# Altium schematic symbol library transformers.SchLib: 9 symbols
Pins are listed as number, name and electrical type; pins without a type are passive.

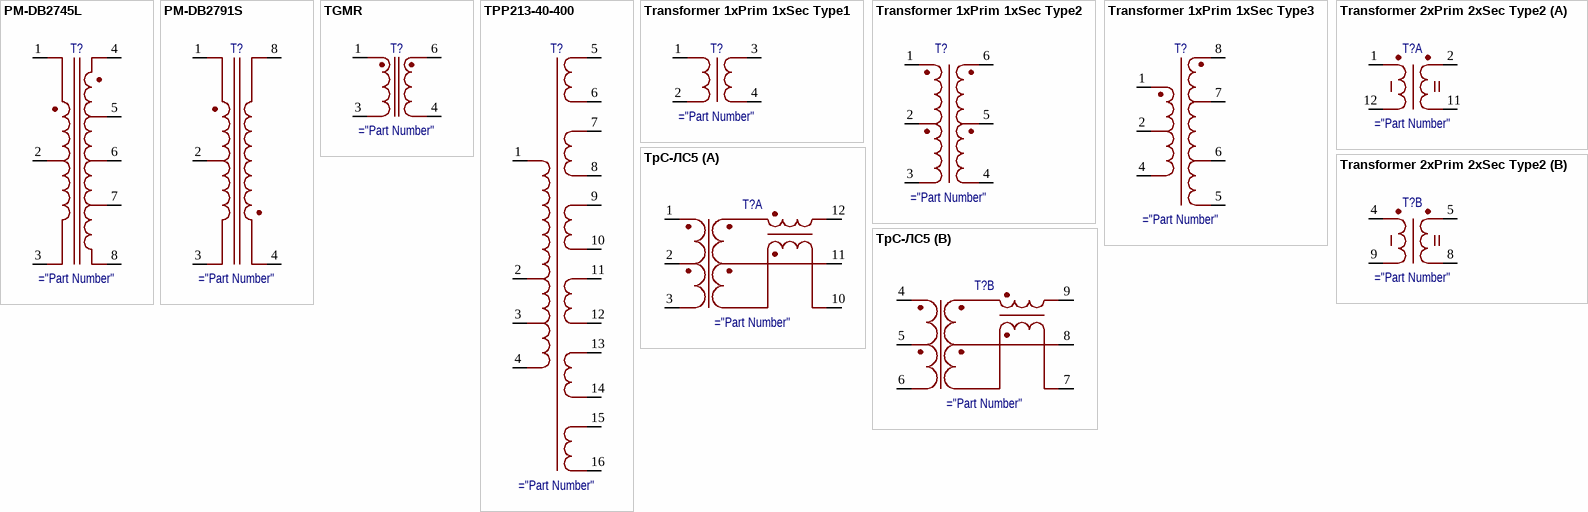
[diagram p0: symbols PM-DB2745L to ТрС-ЛС5]

## PM-DB2745L
designator T?
Трансформатор
pins: 1, 2, 3, 4, 5, 6, 7, 8

## PM-DB2791S
designator T?
Трансформатор
pins: 1, 2, 3, 4, 5 hidden, 6 hidden, 7 hidden, 8

## TGMR
designator T?
Трансформатор
pins: 1, 2 hidden, 3, 4 3, 5 hidden, 6

## TPP213-40-400
designator T?
Трансформатор
pins: 1, 2, 3, 4, 5, 6, 7, 8, 9, 10, 11, 12, 13, 14, 15, 16

## Transformer 1xPrim 1xSec Type1
designator T?
Трансформатор
pins: 1, 2, 3 4, 4 3

## Transformer 1xPrim 1xSec Type2
designator T?
Трансформатор
pins: 1, 2, 3, 4, 5, 6

## Transformer 1xPrim 1xSec Type3
designator T?
Трансформатор
pins: 1, 2, 3 hidden, 4, 5, 6, 7, 8

## Transformer 2xPrim 2xSec Type2
designator T?
Трансформатор
part A pins: 1, 2, 11, 12
part B pins: 3 hidden, 4, 5, 6 hidden, 7 hidden, 8, 9, 10 hidden

## ТрС-ЛС5
designator T?
Трансформатор Ethernet
part A pins: 1, 2, 3, 10, 11, 12
part B pins: 4, 5, 6, 7, 8, 9